# Altium footprint library GL18 Joystick PCBLIB.PcbLib: 2 footprints
Each footprint in its own frame and in the unit in brackets; x right, y up, seen from the top. Pads: shape width x height; smd on the part's side, far side on the other; paste and mask are expansions set on the pad; w line width, h text height; cw(c..) or ccw(c..) is an arc to the next point about the centre after c.
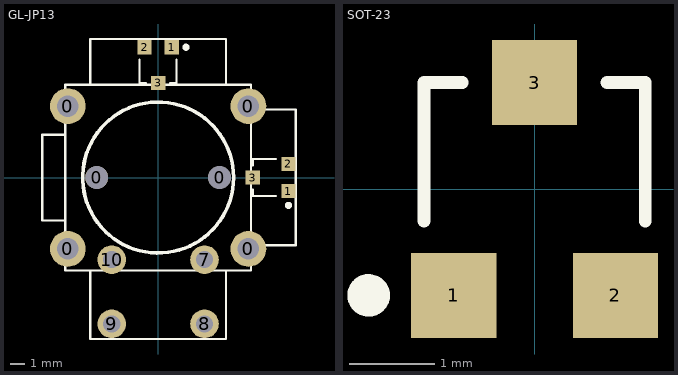
[diagram p0: the footprints below, top view; thin cyan lines are the x and y axes]

## GL-JP13 [mm]
height 1.5
pads (16):
  round 2.5 hole 1.5: 0(-6.325,-5) 0(-6.325,5) 0(6.325,-5) 0(6.325,5)
  round 1.6 hole 1.6: 0(-4.3,0) 0(4.3,0)
  rect 1x1 smd: 1(0.95,9.124) 1(9.124,-0.95) 2(-0.95,9.124) 2(9.124,0.95) 3(0,6.624) 3(6.624,0)
  round 2 hole 1.2: 7(3.25,-5.75) 8(3.25,-10.25) 9(-3.25,-10.25) 10(-3.25,-5.75)
Top Overlay:
  circle w0.25: c9.124,-1.95 r0.125
  circle w0.25: c1.95,9.124 r0.125
  circle w0.254: c0,0 r5.285
  lines w0.15: -1.3,8.249 -1.3,6.624 -0.85,6.624 ; 0.85,6.624 1.3,6.624 1.3,8.249 ; 6.624,-0.85 6.624,-1.3 8.249,-1.3 ; 6.624,0.85 6.624,1.3 8.249,1.3
  lines w0.152: -8.112,-2.993 -8.112,2.993 -6.511,2.993 ccw(c-6.511,3.004) -6.5,3.004 ; -8.108,-3 -6.507,-3 ; -4.753,-6.521 -4.753,-11.307 4.747,-11.307 4.747,-6.532 ; -4.75,6.546 -4.75,9.691 ; -4.75,9.7 4.75,9.7 ; 4.75,6.546 4.75,9.688 ; 6.582,-4.74 9.637,-4.74 9.637,4.76 6.582,4.76 ; -6.5,-6.5 -6.5,6.5 6.5,6.5 6.5,-6.5 -6.5,-6.5
3D body: height 1.2, standoff 0, extent 6.474,-1.45 9.274,1.45
3D body: height 1.2, standoff 0, extent -1.45,6.474 1.45,9.274
3D body: height 2.35, standoff -19.5, extent -8.109,-11.596 9.678,9.679

## SOT-23 [mm]
pads (3):
  rect 1x1 smd: 1(-0.95,-1.25) 2(0.95,-1.25) 3(0,1.25)
Top Overlay:
  circle w0.25: c-1.95,-1.25 r0.125
  lines w0.15: -1.3,-0.375 -1.3,1.25 -0.85,1.25 ; 0.85,1.25 1.3,1.25 1.3,-0.375
3D body: height 1.2, standoff 0, extent -1.45,-1.4 1.45,1.4